# EAGLE library part SJSUONEX (library laztech_parts)
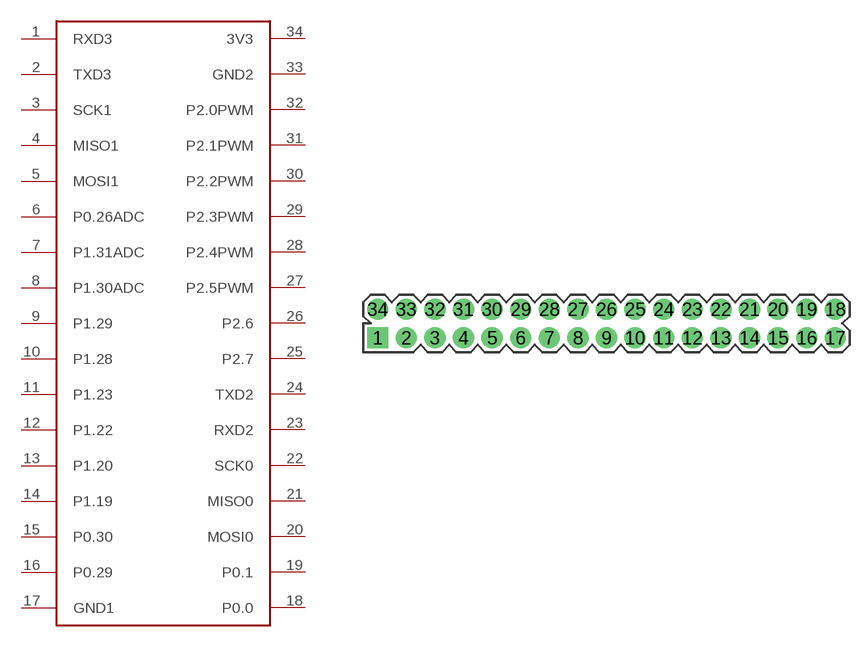
[diagram p1: symbol with the pads of 2X17; footprint 2X17]

Designator prefix -

## SJSUONEX  [2X17]
1  RXD3
2  TXD3
3  SCK1
4  MISO1
5  MOSI1
6  P0.26ADC
7  P1.31ADC
8  P1.30ADC
9  P1.29
10  P1.28
11  P1.23
12  P1.22
13  P1.20
14  P1.19
15  P0.30
16  P0.29
17  GND1  sup
18  P0.0
19  P0.1
20  MOSI0
21  MISO0
22  SCK0
23  RXD2
24  TXD2
25  P2.7
26  P2.6
27  P2.5PWM
28  P2.4PWM
29  P2.3PWM
30  P2.2PWM
31  P2.1PWM
32  P2.0PWM
33  GND2  sup
34  3V3  pwr

## Footprint 2X17 (pad centres in mm)
drill 1.02 pad 1.887 square: 1 -20.32,-1.27
drill 1.02 pad 1.887: 2 -17.78,-1.27; 3 -15.24,-1.27; 4 -12.7,-1.27; 5 -10.16,-1.27; 6 -7.62,-1.27; 7 -5.08,-1.27; 8 -2.54,-1.27; 9 0,-1.27; 10 2.54,-1.27; 11 5.08,-1.27; 12 7.62,-1.27; 13 10.16,-1.27; 14 12.7,-1.27; 15 15.24,-1.27; 16 17.78,-1.27; 17 20.32,-1.27; 18 20.32,1.27; 19 17.78,1.27; 20 15.24,1.27; 21 12.7,1.27; 22 10.16,1.27; 23 7.62,1.27; 24 5.08,1.27; 25 2.54,1.27; 26 0,1.27; 27 -2.54,1.27; 28 -5.08,1.27; 29 -7.62,1.27; 30 -10.16,1.27; 31 -12.7,1.27; 32 -15.24,1.27; 33 -17.78,1.27; 34 -20.32,1.27